# EAGLE library part TDA7396 (library ST Microelctronics_By_element14_Batch_1)
45W/2? BRIDGE CAR RADIO AMPLIFIER WITH DIAGNOSTIC FACILITY
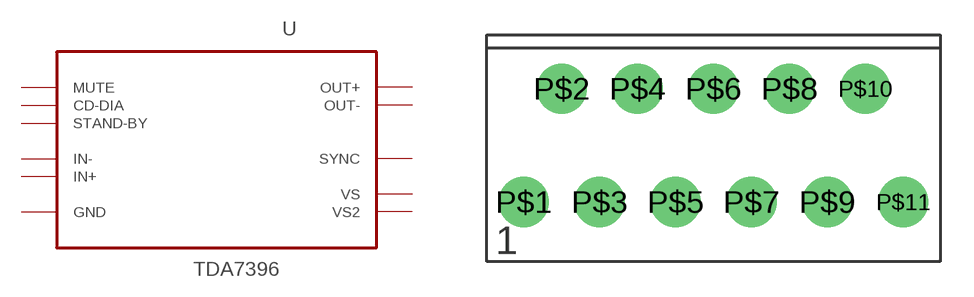
[diagram p0: symbol with the pads of MULTIWATT11; footprint MULTIWATT11]

Designator prefix U

## TDA7396  [MULTIWATT11]
P$1  IN-  in
P$2  IN+  in
P$3  VS  pwr
P$4  CD-DIA  in
P$5  OUT-  out
P$6  GND  pas
P$7  OUT+  out
P$8  STAND-BY  in
P$9  VS2  pwr
P$10  SYNC  pas
P$11  MUTE  in

## Footprint MULTIWATT11 (pad centres in mm)
drill 1.067 pad 2.261: P$1 -8.509,-6.223; P$2 -6.807,-1.143; P$3 -5.105,-6.223; P$4 -3.404,-1.143; P$5 -1.702,-6.223; P$6 0,-1.143; P$7 1.702,-6.223; P$8 3.404,-1.143; P$9 5.105,-6.223; P$10 6.807,-1.143; P$11 8.509,-6.223